# Altium schematic symbol library DG409DY-E3 8-Ch Analog Multiplexer.SchLib: 1 symbol
Pins are listed as number, name and electrical type; pins without a type are passive.

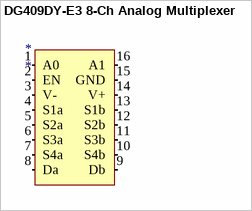
[diagram p0: symbol DG409DY-E3 8-Ch Analog Multiplexer]

## DG409DY-E3 8-Ch Analog Multiplexer
designator *
pins: 1 A0 (in), 2 EN (in), 3 V- (in), 4 S1a (in), 5 S2a (in), 6 S3a (in), 7 S4a (in), 8 Da (in), 9 Db (in), 10 S4b (in), 11 S3b (in), 12 S2b (in), 13 S1b (in), 14 V+ (in), 15 GND (in), 16 A1 (in)